# Altium schematic symbol library DRV8245SQRXZRQ1.SchLib: 1 symbol
Pins are listed as number, name and electrical type; pins without a type are passive.

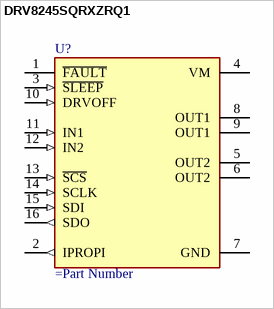
[diagram p0: symbol DRV8245SQRXZRQ1]

## DRV8245SQRXZRQ1
designator U?
Copyright: Copyright (C) 2025 Ultra Librarian. All rights reserved.
pins: 1 ~{FAULT} (oc), 2 IPROPI (out), 3 ~{SLEEP} (in), 4 VM (power), 5 OUT2, 6 OUT2, 7 GND (power), 8 OUT1, 9 OUT1, 10 DRVOFF (in), 11 IN1 (in), 12 IN2 (in), 13 ~{SCS} (in), 14 SCLK (in), 15 SDI (in), 16 SDO (out)